# Altium footprint library Sangjian_Pcb.PcbLib: 434 footprints (part 15 of 28)
Each footprint in its own frame and in the unit in brackets; x right, y up, seen from the top. Pads: shape width x height; smd on the part's side, far side on the other; paste and mask are expansions set on the pad; w line width, h text height; cw(c..) or ccw(c..) is an arc to the next point about the centre after c.
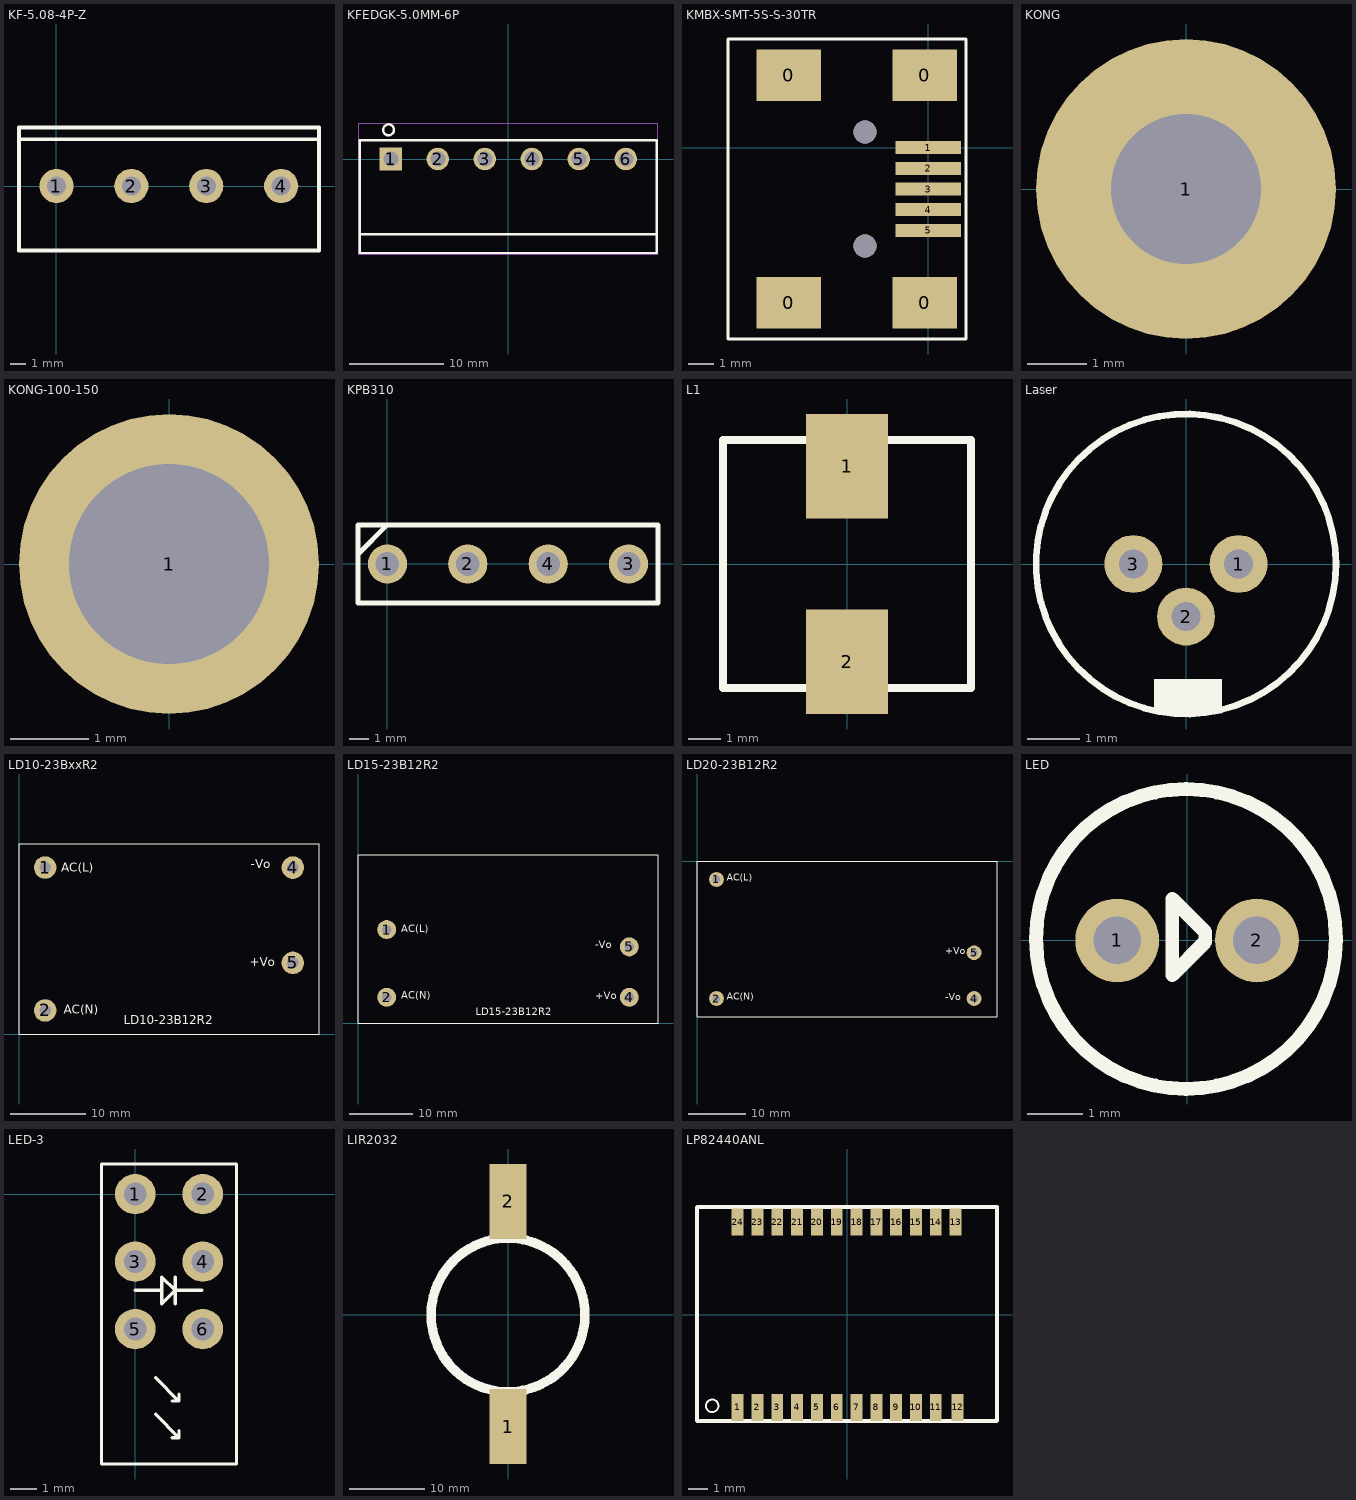
[diagram p14: the footprints below, top view; thin cyan lines are the x and y axes]

## KF-5.08-4P-Z [mil]
pads (4):
  round 90 hole 50: 1(0,0) 2(196.87,0) 3(393.72,0) 4(590.57,0)
Top Overlay:
  lines w10: -98.43,122.71 686.57,122.71 ; -98.43,-169.29 689.98,-169.29 689.98,153.54 -98.43,153.54 -98.43,-169.29

## KFEDGK-5.0MM-6P [mm]
pads (6):
  rect 2.4x2.4 hole 1.6: 1(-12.5,0)
  round 2.4 hole 1.6: 2(-7.5,0) 3(-2.5,0) 4(2.5,0) 5(7.5,0) 6(12.5,0)
Top Overlay:
  circle w0.254: c-12.74,3.1 r0.583
  lines w0.254: -15.8,-8 15.8,-8 ; -11.505,-10 -8.84,-10 ; -15.8,-10 -15.8,2 15.8,2 15.8,-10 -15.8,-10
Mechanical 15:
  drawing of 11 lines, arcs and shapes, not listed

## KMBX-SMT-5S-S-30TR [mm]
pads (9):
  rect 2.5x2 smd: 0(-5.397,-6) 0(-5.397,2.8) 0(-0.147,-6) 0(-0.147,2.8)
  rect 2.54x0.5 smd: 1(0,0) 2(0,-0.8) 3(0,-1.6) 4(0,-2.4) 5(0,-3.2)
via -2.447,-3.8 diameter 0.9 hole 0.9
via -2.447,0.6 diameter 0.9 hole 0.9
Top Overlay:
  lines w0.127: -7.747,-7.4 1.453,-7.4 1.453,4.2 -7.747,4.2 -7.747,-7.4

## KONG [mm]
pads (1):
  round 5.08 hole 2.54: 1(0,0)

## KONG-100-150 [mm]
pads (1):
  round 3.81 hole 2.54: 1(0,0)

## KPB310 [mm]
pads (4):
  round 2 hole 1.2: 1(0,0) 2(4.1,0) 3(12.3,0) 4(8.2,0)
Top Overlay:
  lines w0.254: -1.5,0.4 -1.5,0.5 0,2 ; -1.5,-2 13.8,-2 13.8,2 13.4,2 9.4,2 -1.5,2 -1.5,-2

## L1 [mm]
pads (2):
  rect 2.5x3.2 smd: 1(0,3) 2(0,-3)
Top Overlay:
  lines w0.254: -3.8,-3.8 3.8,-3.8 3.8,3.8 -3.8,3.8 -3.8,-3.8

## Laser [mm]
pads (3):
  round 1.1 hole 0.55: 1(1,0) 2(0,-1) 3(-1,0)
Top Overlay:
  circle w0.127: c0,0 r2.85
  rectangle: -0.61,-2.819 0.686,-2.184

## LD10-23BxxR2 [mm]
pads (4):
  round 3 hole 1.5: 1(3.49,22.225) 2(3.49,3.175) 4(36.51,22.22) 5(36.51,9.52)
Top Overlay:
  lines w0.1: 0,0 40,0 40,25.4 0,25.4 0,0
  text "-Vo" at 30.886,21.72 h2.03
  text "+Vo" at 30.78,8.678 h2.03
  text "AC(N)" at 5.97,2.357 h2.03
  text "AC(L)" at 5.665,21.28 h2.03
  text "LD10-23B12R2" at 13.995,0.964 h2.03

## LD15-23B12R2 [mm]
pads (4):
  round 3 hole 1.5: 1(4.55,14.9) 2(4.55,4.15) 4(43.05,4.15) 5(43.05,12.15)
Top Overlay:
  lines w0.1: 0,0 0,26.8 47.6,26.8 47.6,0 0,0
  text "LD15-23B12R2" at 18.669,0.867 h2.03
  text "AC(L)" at 6.859,14.041 h2.03
  text "AC(N)" at 6.859,3.526 h2.03
  text "+Vo" at 37.643,3.457 h2.03
  text "-Vo" at 37.643,11.56 h2.03

## LD20-23B12R2 [mm]
pads (4):
  round 2.6 hole 1.3: 1(3.4,-3.2) 2(3.4,-24) 4(48.4,-24) 5(48.4,-16)
Top Overlay:
  lines w0.1: 0,-27.2 52.4,-27.2 52.4,0 0,0 0,-27.2
  text "-Vo" at 43.358,-24.711 h2.03
  text "+Vo" at 43.358,-16.685 h2.03
  text "AC(L)" at 5.233,-3.84 h2.03
  text "AC(N)" at 5.233,-24.643 h2.03

## LDW0735T-102 [mm]

## LED [mil]
pads (2):
  round 60 hole 34: 1(-50,0) 2(50,0)
Top Overlay:
  circle w10: c-0.79,0.98 r107.32
  lines w10: -10.63,-24.61 -10.63,29.53 12.99,5.91 12.99,-0.98 -10.63,-24.61

## LED-3 [mil]
pads (6):
  round 60 hole 34: 1(0,0) 2(100,0) 3(0,-100) 4(100,-100) 5(0,-200) 6(100,-200)
Top Overlay:
  lines w5: 0,-142.72 39.37,-142.72 ; 30.32,-326.38 64.76,-360.83 ; 30.32,-272.24 64.76,-306.69 ; 54.92,-360.83 64.76,-360.83 ; 54.92,-306.69 64.76,-306.69 ; 59.06,-162.4 59.06,-123.03 ; 64.76,-350.98 64.76,-360.83 ; 64.76,-296.85 64.76,-306.69 ; 98.43,-142.72 59.06,-142.72 ; 59.06,-142.72 39.37,-162.4 39.37,-123.03 59.06,-142.72 ; -50,-400 150,-400 150,44.69 -50,44.69 -50,-400

## LIR2032 [mm]
pads (2):
  rect 5x10 smd: 1(0,-14.884) 2(0,15.138)
Top Overlay:
  lines w1.27: 9.946,2.477 ccw(c0,0) 9.958,2.428

## LP82440ANL [mm]
pads (24):
  rect 0.6x1.35 smd: 1(-5.525,-4.675) 2(-4.525,-4.675) 3(-3.525,-4.675) 4(-2.525,-4.675) 5(-1.525,-4.675) 6(-0.525,-4.675) 7(0.475,-4.675) 8(1.475,-4.675) 9(2.475,-4.675) 10(3.475,-4.675) 11(4.475,-4.675) 12(5.575,-4.675) 13(5.475,4.675) 14(4.475,4.675) 15(3.475,4.675) 16(2.475,4.675) 17(1.475,4.675) 18(0.475,4.675) 19(-0.525,4.675) 20(-1.525,4.675) 21(-2.525,4.675) 22(-3.525,4.675) 23(-4.525,4.675) 24(-5.525,4.675)
Top Overlay:
  circle w0.1: c-6.807,-4.597 r0.318
  lines w0.2: -7.575,-5.343 -7.575,5.401 ; -7.55,-5.35 7.55,-5.35 ; -7.55,5.426 7.55,5.426 ; 7.563,-5.343 7.563,5.426